# Altium schematic symbol library components.SchLib: 14 symbols
Pins are listed as number, name and electrical type; pins without a type are passive.

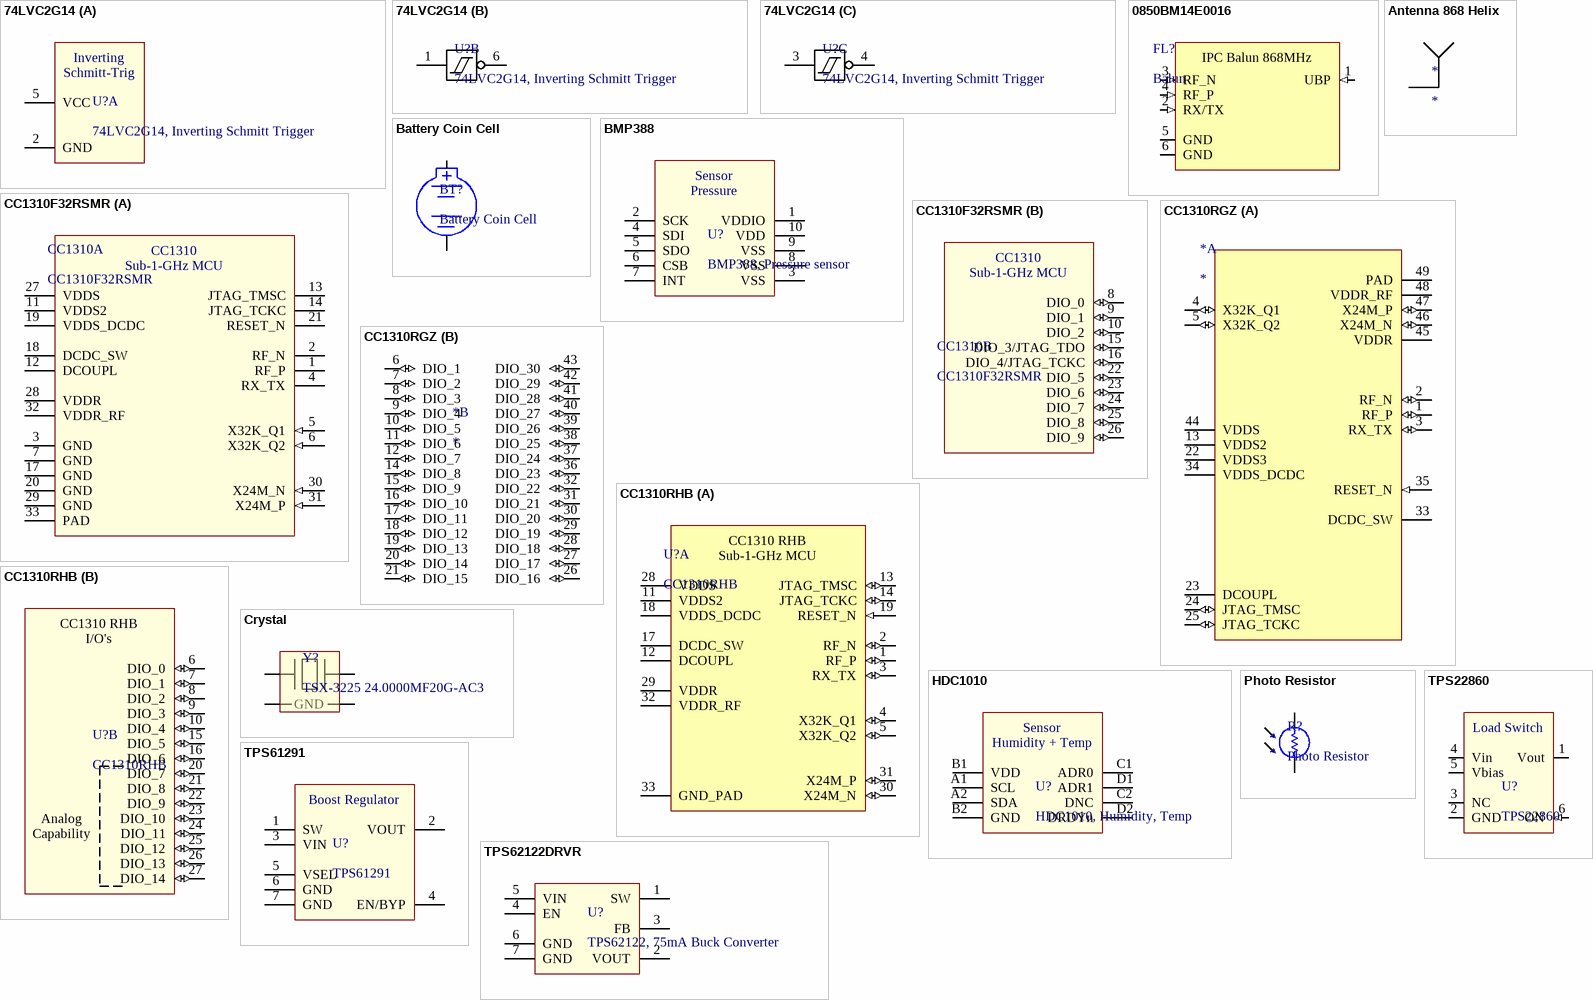
[diagram p0: symbols 74LVC2G14 to TPS62122DRVR]

## 74LVC2G14
designator U?, comment 74LVC2G14, Inverting Schmitt Trigger
footprint 74LVC2G14 (TSOP, 6-Leads, Body 2,90x1,50mm, Pitch 0,95mm, IPC Medium Density)
part A pins: 2 GND, 5 VCC
part B pins: 1 1A, 6 1Y
part C pins: 3 2A, 4 2Y
part A text: Inverting; Schmitt-Trig

## 0850BM14E0016
designator FL?, comment Balun
footprint 0850BM14E0016
pins: 1 UBP (in), 2 RX/TX (in), 3 RF_N (in), 4 RF_P (in), 5 GND (power), 6 GND (power)
text: IPC Balun 868MHz

## Antenna 868 Helix
designator *
footprint Antenna_868_Helix
pins: 1 0

## Battery Coin Cell
designator BT?
footprint S8421-45R
pins: 1 Positive, 2 Negative

## BMP388
designator U?, comment BMP388, Pressure sensor
footprint BMP388 (LGA, 10-Leads, Body 2,00x2,00mmx0,80mm, Pitch 0,50mm)
pins: 1 VDDIO, 2 SCK, 3 VSS, 4 SDI, 5 SDO, 6 CSB, 7 INT, 8 VSS, 9 VSS, 10 VDD
text: Sensor; Pressure

## CC1310F32RSMR
designator CC1310
footprint CC1310F32RSMR (QFN, 32-Leads, Body 4,00x4,00mm, Pitch 0,40mm, Thermal Pad 2,80x2,80mm, IPC Medium Density)
part A pins: 1 RF_P, 2 RF_N, 3 GND, 4 RX_TX, 5 X32K_Q1 (in), 6 X32K_Q2 (in), 7 GND, 11 VDDS2, 12 DCOUPL (power), 13 JTAG_TMSC, 14 JTAG_TCKC, 17 GND, 18 DCDC_SW (power), 19 VDDS_DCDC, 20 GND, 21 RESET_N, 27 VDDS, 28 VDDR (power), 29 GND, 30 X24M_N (in), 31 X24M_P (in), 32 VDDR_RF (power), 33 PAD
part B pins: 8 DIO_0 (io), 9 DIO_1 (io), 10 DIO_2 (io), 15 DIO_3/JTAG_TDO (io), 16 DIO_4/JTAG_TCKC (io), 22 DIO_5 (io), 23 DIO_6 (io), 24 DIO_7 (io), 25 DIO_8 (io), 26 DIO_9 (io)
part A text: Sub-1-GHz MCU
part B text: Sub-1-GHz MCU

## CC1310RGZ
designator *
part A pins: 1 RF_P (io), 2 RF_N (io), 3 RX_TX (io), 4 X32K_Q1 (io), 5 X32K_Q2 (io), 13 VDDS2 (power), 22 VDDS3 (power), 23 DCOUPL (power), 24 JTAG_TMSC (io), 25 JTAG_TCKC (io), 33 DCDC_SW (power), 34 VDDS_DCDC (power), 35 RESET_N (in), 44 VDDS (power), 45 VDDR (power), 46 X24M_N (io), 47 X24M_P (io), 48 VDDR_RF (power), 49 PAD
part B pins: 6 DIO_1 (io), 7 DIO_2 (io), 8 DIO_3 (io), 9 DIO_4 (io), 10 DIO_5 (io), 11 DIO_6 (io), 12 DIO_7 (io), 14 DIO_8 (io), 15 DIO_9 (io), 16 DIO_10 (io), 17 DIO_11 (io), 18 DIO_12 (io), 19 DIO_13 (io), 20 DIO_14 (io), 21 DIO_15 (io), 26 DIO_16 (io), 27 DIO_17 (io), 28 DIO_18 (io), 29 DIO_19 (io), 30 DIO_20 (io), 31 DIO_21 (io), 32 DIO_22 (io), 36 DIO_23 (io), 37 DIO_24 (io), 38 DIO_25 (io), 39 DIO_26 (io), 40 DIO_27 (io), 41 DIO_28 (io), 42 DIO_29 (io), 43 DIO_30 (io)

## CC1310RHB
designator U?
footprint VQFN-32_5x5 (QFN, 32-Leads, Body 5,00x5,00mm, Pitch 0,50mm, Thermal Pad 3,45x3,45mm, IPC Medium Density)
part A pins: 1 RF_P (io), 2 RF_N (io), 3 RX_TX (io), 4 X32K_Q1 (io), 5 X32K_Q2 (io), 11 VDDS2 (power), 12 DCOUPL (power), 13 JTAG_TMSC (io), 14 JTAG_TCKC (io), 17 DCDC_SW (power), 18 VDDS_DCDC (power), 19 RESET_N (in), 28 VDDS (power), 29 VDDR (power), 30 X24M_N (io), 31 X24M_P (io), 32 VDDR_RF (power), 33 GND_PAD
part B pins: 6 DIO_0 (io), 7 DIO_1 (io), 8 DIO_2 (io), 9 DIO_3 (io), 10 DIO_4 (io), 15 DIO_5 (io), 16 DIO_6 (io), 20 DIO_7 (io), 21 DIO_8 (io), 22 DIO_9 (io), 23 DIO_10 (io), 24 DIO_11 (io), 25 DIO_12 (io), 26 DIO_13 (io), 27 DIO_14 (io)
part A text: CC1310 RHB; Sub-1-GHz MCU
part B text: CC1310 RHB; I/O's; Analog; Capability

## Crystal
designator Y?, comment TSX-3225 24.0000MF20G-AC3
footprint TSX-3225 24.0000MF20G-AC3
pins: 1 ON, 2 ON, 3 ON, 4 ON
text: GND

## HDC1010
designator U?, comment HDC1010, Humidity, Temp
footprint HDC1010 (BGA, 8-Leads, Body 1,59x2,04mmx0,68mm, Pitch 0,50mm)
pins: A1 SCL, A2 SDA, B1 VDD, B2 GND, C1 ADR0, C2 DNC, D1 ADR1, D2 DRDYn
text: Sensor; Humidity + Temp

## Photo Resistor
designator R?
footprint Photoresistor
pins: 1, 2

## TPS22860
designator U?
footprint SOT23-5 (SOT23, 5-Leads, Body 2,90x2,80mm, Pitch 0,95mm, IPC Medium Density)
pins: 1 Vout (power), 2 GND (power), 3 NC, 4 Vin (power), 5 Vbias (power), 6 ON (in)
text: Load Switch

## TPS61291
designator U?
footprint TPS61291 (SON, 6-Leads, Body 2,00x2,00mm, Pitch 0,65mm, Thermal Pad 1,60x0,89mm, IPC Medium Density)
pins: 1 SW, 2 VOUT, 3 VIN, 4 EN/BYP, 5 VSEL, 6 GND, 7 GND
text: Boost Regulator

## TPS62122DRVR
designator U?, comment TPS62122, 75mA Buck Converter
footprint TPS62122DRVR (SON, 6-Leads, Body 2,00x2,00mm, Pitch 0,65mm, Thermal Pad 1,60x1,00mm, IPC Medium Density)
pins: 1 SW, 2 VOUT, 3 FB, 4 EN, 5 VIN, 6 GND, 7 GND